# Altium schematic symbol library CN3330.SchLib: 1 symbol
Pins are listed as number, name and electrical type; pins without a type are passive.

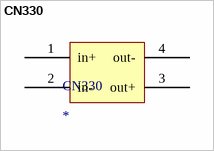
[diagram p0: symbol CN330]

## CN330
designator CN330
footprint CN330
pins: 1 in+, 2 in-, 3 out+, 4 out-